# EAGLE library part LT5016M1 (library LT5016M1)
16 x 16 dot matrix BIG 2 color LED LT - 5016 M 1 Source: Datasheet <http://akizukidenshi.com/catalog/g/gI-00039/>
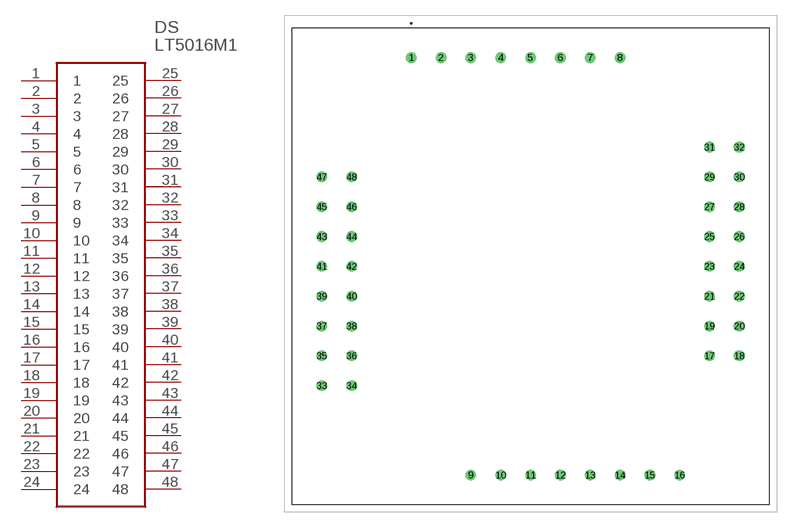
[diagram p0: symbol with the pads of LT5016M1; footprint LT5016M1]

Designator prefix DS

## LT5016M1 (Description: 16 x 16 dot matrix BIG 2 color LED LT - 5016 M 1; Height: 11mm; Manufacturer_Name: Sharp Microelectronics; Manufacturer_Part_Number: LT5016M1)  [LT5016M1]
1  1
2  2
3  3
4  4
5  5
6  6
7  7
8  8
9  9
10  10
11  11
12  12
13  13
14  14
15  15
16  16
17  17
18  18
19  19
20  20
21  21
22  22
23  23
24  24
25  25
26  26
27  27
28  28
29  29
30  30
31  31
32  32
33  33
34  34
35  35
36  36
37  37
38  38
39  39
40  40
41  41
42  42
43  43
44  44
45  45
46  46
47  47
48  48

## Footprint LT5016M1 (pad centres in mm)
LT5016M1
drill 0.91 pad 1.416: 1 -16,27.65; 2 -12,27.65; 3 -8,27.65; 4 -4,27.65; 5 0,27.65; 6 4,27.65; 7 8,27.65; 8 12,27.65; 9 -8,-28.35; 10 -4,-28.35; 11 0,-28.35; 12 4,-28.35; 13 8,-28.35; 14 12,-28.35; 15 16,-28.35; 16 20,-28.35; 17 24,-12.35; 18 28,-12.35; 19 24,-8.35; 20 28,-8.35; 21 24,-4.35; 22 28,-4.35; 23 24,-0.35; 24 28,-0.35; 25 24,3.65; 26 28,3.65; 27 24,7.65; 28 28,7.65; 29 24,11.65; 30 28,11.65; 31 24,15.65; 32 28,15.65; 33 -28,-16.35; 34 -24,-16.35; 35 -28,-12.35; 36 -24,-12.35; 37 -28,-8.35; 38 -24,-8.35; 39 -28,-4.35; 40 -24,-4.35; 41 -28,-0.35; 42 -24,-0.35; 43 -28,3.65; 44 -24,3.65; 45 -28,7.65; 46 -24,7.65; 47 -28,11.65; 48 -24,11.65